# EAGLE library part LM4674 (library nonolith)
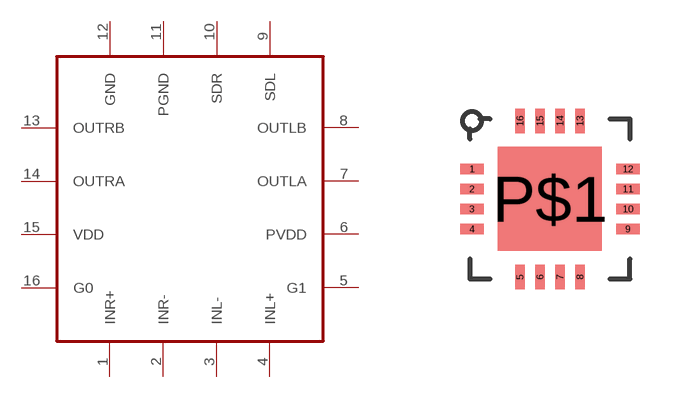
[diagram p31: symbol with the pads of QFN-16; footprint QFN-16]

Designator prefix -

## LM4674  [QFN-16]
1  INR+
2  INR-
3  INL-
4  INL+
5  G1
6  PVDD
7  OUTLA
8  OUTLB
9  SDL
10  SDR
11  PGND
12  GND
13  OUTRB
14  OUTRA
15  VDD
16  G0

## Footprint QFN-16 (pad centres in mm)
smd 0.6 x 0.25: 1 -1.95,0.75; 2 -1.95,0.25; 3 -1.95,-0.25; 4 -1.95,-0.75; 9 1.95,-0.75; 10 1.95,-0.25; 11 1.95,0.25; 12 1.95,0.75
smd 0.25 x 0.6: 5 -0.75,-1.95; 6 -0.25,-1.95; 7 0.25,-1.95; 8 0.75,-1.95; 13 0.75,1.95; 14 0.25,1.95; 15 -0.25,1.95; 16 -0.75,1.95
smd 2.6 x 2.6: P$1 0,0